# Altium footprint library LED.PcbLib: 27 footprints (part 2 of 2)
Each footprint in its own frame and in the unit in brackets; x right, y up, seen from the top. Pads: shape width x height; smd on the part's side, far side on the other; paste and mask are expansions set on the pad; w line width, h text height; cw(c..) or ccw(c..) is an arc to the next point about the centre after c.
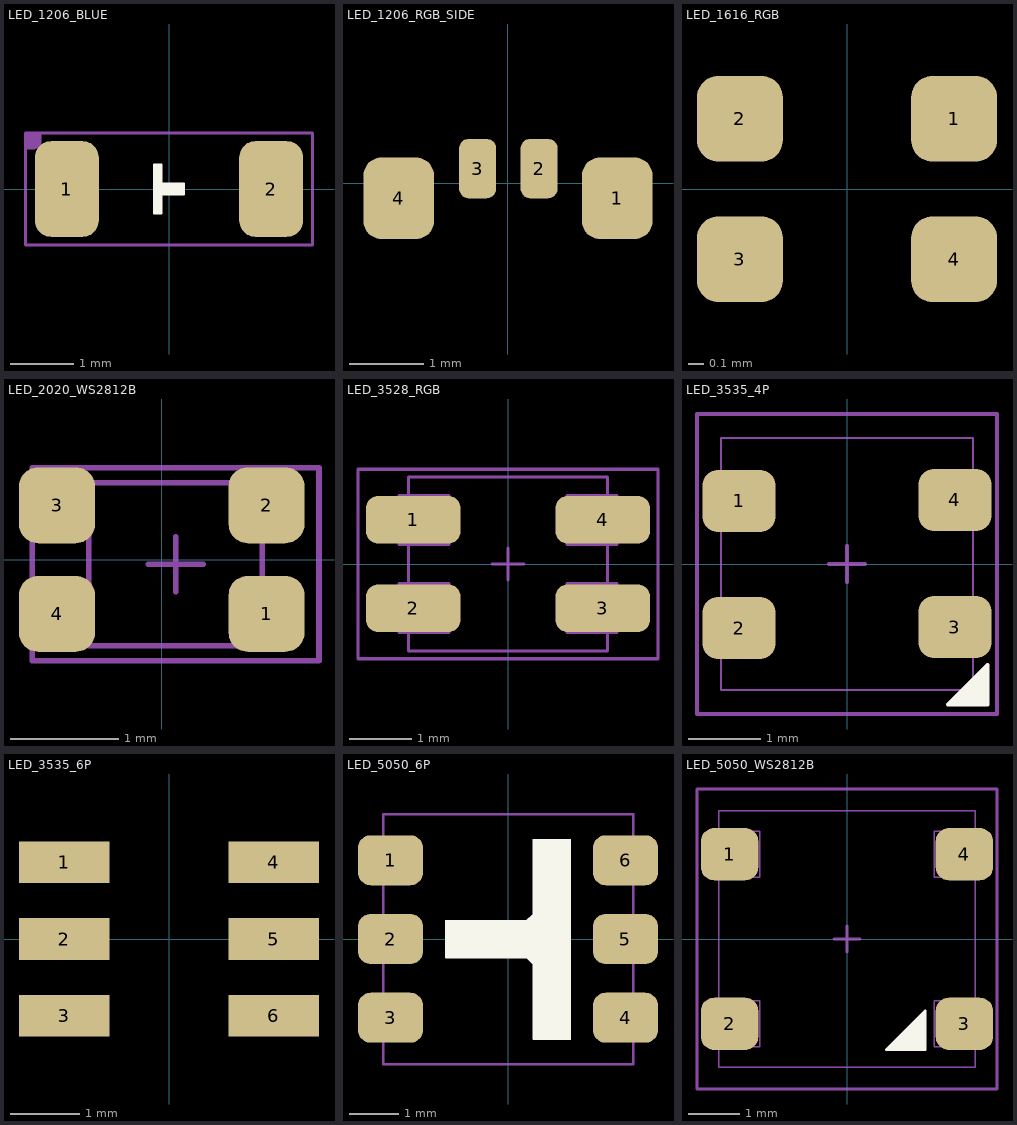
[diagram p1: the footprints below, top view; thin cyan lines are the x and y axes]

## LED_1206_BLUE [mil]
height 47.24
pads (2):
  rrect50% 40x60 smd: 1(-64,0) 2(64,0)
Top Overlay:
  region: -9.5,15.5 -4.5,15.5 -4.5,3.5 9.5,3.5 9.5,-3.5 -4.5,-3.5 -4.5,-15.5 -9.5,-15.5
  lines w1: -9.5,-15.5 -9.5,15.5 -4.5,15.5 -4.5,3.5 9.5,3.5 9.5,-3.5 -4.5,-3.5 -4.5,-15.5 -9.5,-15.5
Mechanical 14:
  region: -90,35 -80,35 -80,30 -80,29.01 -80.76,27.17 -82.17,25.76 -84.01,25 -85,25 -90,25
  lines w2: -90,-35 90,-35 90,35 -90,35 -90,-35
3D body "User Library-led_1206LED1206 blue.STEP": height 43.31, standoff 0, extent -63.39,-31.5 63.38,31.5

## LED_1206_GREEN [mil]
height 47.24
3D body "User Library-led_1206LED1206 green.STEP": height 43.31, standoff 0, extent -63.38,-31.5 63.39,31.5

## LED_1206_RED [mil]
height 47.24
3D body "User Library-led_1206LED1206 red.STEP": height 43.31, standoff 0, extent -63.39,-31.5 63.38,31.5

## LED_1206_RGB_SIDE [mm]
pads (4):
  rrect50% 0.95x1.1 smd: 1(1.475,-0.2) 4(-1.475,-0.2)
  rrect50% 0.5x0.8 smd: 2(0.42,0.2) 3(-0.41,0.2)

## LED_1616_RGB [mm]
height 1.2
pads (4):
  rrect50% 0.55x0.55 smd: 1(0.686,0.45) 2(-0.686,0.45) 3(-0.686,-0.45) 4(0.686,-0.45)
3D body "User Library-APTF1616.step": height 0.77, standoff 0.07, extent -0.8,-0.8 0.8,0.8

## LED_2020_WS2812B [mm]
pads (4):
  rrect50% 0.7x0.7 smd: 1(0.965,-0.5) 2(0.965,0.5) 3(-0.965,0.5) 4(-0.965,-0.5)
Mechanical 13:
  lines w0.051: -0.127,-0.043 0.381,-0.043 ; 0.127,-0.297 0.127,0.211 ; -0.673,-0.793 0.927,-0.793 0.927,0.707 -0.673,0.707 -0.673,-0.793
Mechanical 14:
  lines w0.051: -1.194,-0.932 -1.194,0.846 1.448,0.846 1.448,-0.932 -1.194,-0.932
3D body "User Library-HSMF-C114.STEP": height 0.34, standoff -0.01, extent -0.785,-0.75 0.815,0.75

## LED_3528_RGB [mil]
height 47.24
pads (4):
  rrect50% 60x30 smd: 1(-60,28) 2(-60,-28) 3(60,-28) 4(60,28)
Mechanical 13:
  lines w2: -62.99,-43.43 -62.99,-55.12 62.99,-55.12 62.99,-43.43 ; -62.99,-12.4 -62.99,12.4 ; -62.99,43.43 -62.99,55.12 62.99,55.12 62.99,43.43 ; -10,0 10,0 ; 0,-10 0,10 ; 62.99,-12.4 62.99,12.4 ; -68.9,-43.31 -68.9,-12.4 -37.4,-12.4 -37.4,-43.31 -68.9,-43.31 ; -68.9,12.4 -68.9,43.31 -37.4,43.31 -37.4,12.4 -68.9,12.4 ; 37.4,-43.31 37.4,-12.4 68.9,-12.4 68.9,-43.31 37.4,-43.31 ; 37.4,12.4 37.4,43.31 68.9,43.31 68.9,12.4 37.4,12.4
Mechanical 14:
  lines w2: -95,-60 95,-60 95,60 -95,60 -95,-60
  text ".Designator" at -30,-20 h80
3D body "User Library-KAA-3528.STEP": height 74.8, standoff 0, extent -68.9,-55.12 68.9,55.11

## LED_3535_4P [mil]
pads (4):
  rrect50% 40x34 smd: 1(-59,34.45) 2(-59,-35) 3(59,-34.45) 4(59,35)
Top Overlay:
  region: 77,-77 55,-77 77,-55
  lines w2: 55,-77 77,-55 77,-77 55,-77
Mechanical 13:
  lines w1: -68.9,-68.9 -68.9,68.9 68.9,68.9 68.9,-68.9 -68.9,-68.9
  lines w2: -10,0 10,0 ; 0,-10 0,10
Mechanical 14:
  lines w2: -82,-82 -82,82 82,82 82,-82 -82,-82
  text ".Designator" at -30,-20 h80
3D body "User Library-HP-XI3535.STEP": height 25.59, standoff -0.04, extent -68.9,-68.9 68.9,68.89

## LED_3535_6P [mm]
pads (6):
  rect 1.3x0.6 smd: 1(-1.5,1.1) 2(-1.5,0) 3(-1.5,-1.1) 4(1.5,1.1) 5(1.5,0) 6(1.5,-1.1)
3D body "User Library-3535RGB.STEP": height 2.8, standoff -0.05, extent -1.85,-1.75 1.85,1.75
3D body: height 0.25, standoff 0, extent -0.254,1.651 -0.254,1.651

## LED_5050_6P [mil]
height 47.24
pads (6):
  rrect50% 52x40 smd: 1(-94,62.99) 2(-94,0) 3(-94,-62.99) 4(94,-62.99) 5(94,0) 6(94,62.99)
Top Overlay:
  region: 20,80 50,80 50,-80 20,-80 20,-20 15,-15 -50,-15 -50,15 15,15 20,20
  lines w1: -50,-15 -50,15 15,15 20,20 20,80 50,80 50,-80 20,-80 20,-20 15,-15 -50,-15
Mechanical 13:
  lines w2: -10,0 10,0 ; 0,-10 0,10
Mechanical 14:
  lines w2: -100,-100 100,-100 100,100 -100,100 -100,-100
  text ".Designator" at -30,-20 h80
3D body "User Library-smd_led_5050.STEP": height 62.99, standoff 0, extent -104.33,-98.5 104.33,98.35

## LED_5050_WS2812B [mil]
pads (4):
  rrect50% 44x40 smd: 1(-90,65) 2(-90,-65) 3(90,-65) 4(90,65)
Top Overlay:
  region: 60,-85 30,-85 60,-55
  lines w2: 30,-85 60,-55 60,-85 30,-85
Mechanical 13:
  lines w1: -101.93,-82.45 -66.93,-82.45 -66.93,-47.45 -101.93,-47.45 -101.93,-82.45 ; -101.93,47.46 -101.93,82.46 -66.93,82.46 -66.93,47.46 -101.93,47.46 ; -98.43,-98.43 -98.43,98.43 98.43,98.43 98.43,-98.43 -98.43,-98.43 ; 66.93,-82.45 66.93,-47.45 101.93,-47.45 101.93,-82.45 66.93,-82.45 ; 66.93,47.46 101.93,47.46 101.93,82.46 66.93,82.46 66.93,47.46
  lines w2: -10,0 10,0 ; 0,-10 0,10
Mechanical 14:
  lines w2: -115,-115 115,-115 115,115 -115,115 -115,-115
  text ".Designator" at -30,-20 h80
3D body "11821.STEP": height 69.02, standoff 0.13, extent -106.29,-98.42 106.3,98.43